# EAGLE library part UA733N (library dec-con)
Differential Op Amp with gain adjust
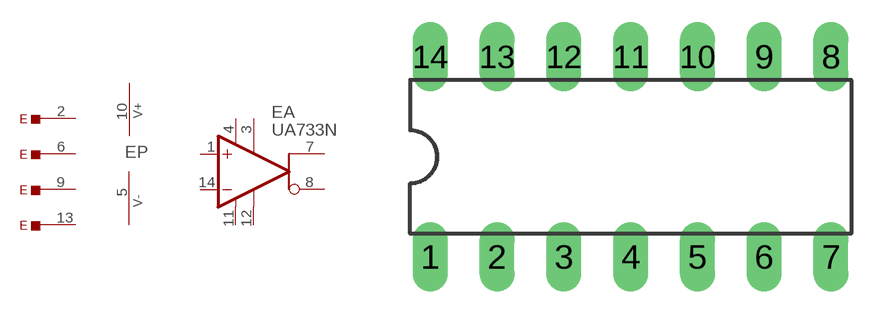
[diagram p68: symbol with the pads of DIL14; footprint DIL14]

Designator prefix E; gates A=UA733 2=PIN 6=PIN 9=PIN 13=PIN P=PWRO

## UA733N  [DIL14]
1  A:+IN  in
2  2:P  pas
3  A:GA2  pas
4  A:GA1  pas
5  P:V-  pwr
6  6:P  pas
7  A:OUT+  out
8  A:OUT-  out
9  9:P  pas
10  P:V+  pwr
11  A:GB1  pas
12  A:GB2  pas
13  13:P  pas
14  A:-IN  in

## Footprint DIL14 (pad centres in mm)
Dual In Line Package
drill 0.813 long: 1 -7.62,-3.81; 2 -5.08,-3.81; 3 -2.54,-3.81; 4 0,-3.81; 5 2.54,-3.81; 6 5.08,-3.81; 7 7.62,-3.81; 8 7.62,3.81; 9 5.08,3.81; 10 2.54,3.81; 11 0,3.81; 12 -2.54,3.81; 13 -5.08,3.81; 14 -7.62,3.81